# Altium footprint library PcbLib1.PcbLib: 26 footprints (part 2 of 2)
Each footprint in its own frame and in the unit in brackets; x right, y up, seen from the top. Pads: shape width x height; smd on the part's side, far side on the other; paste and mask are expansions set on the pad; w line width, h text height; cw(c..) or ccw(c..) is an arc to the next point about the centre after c.
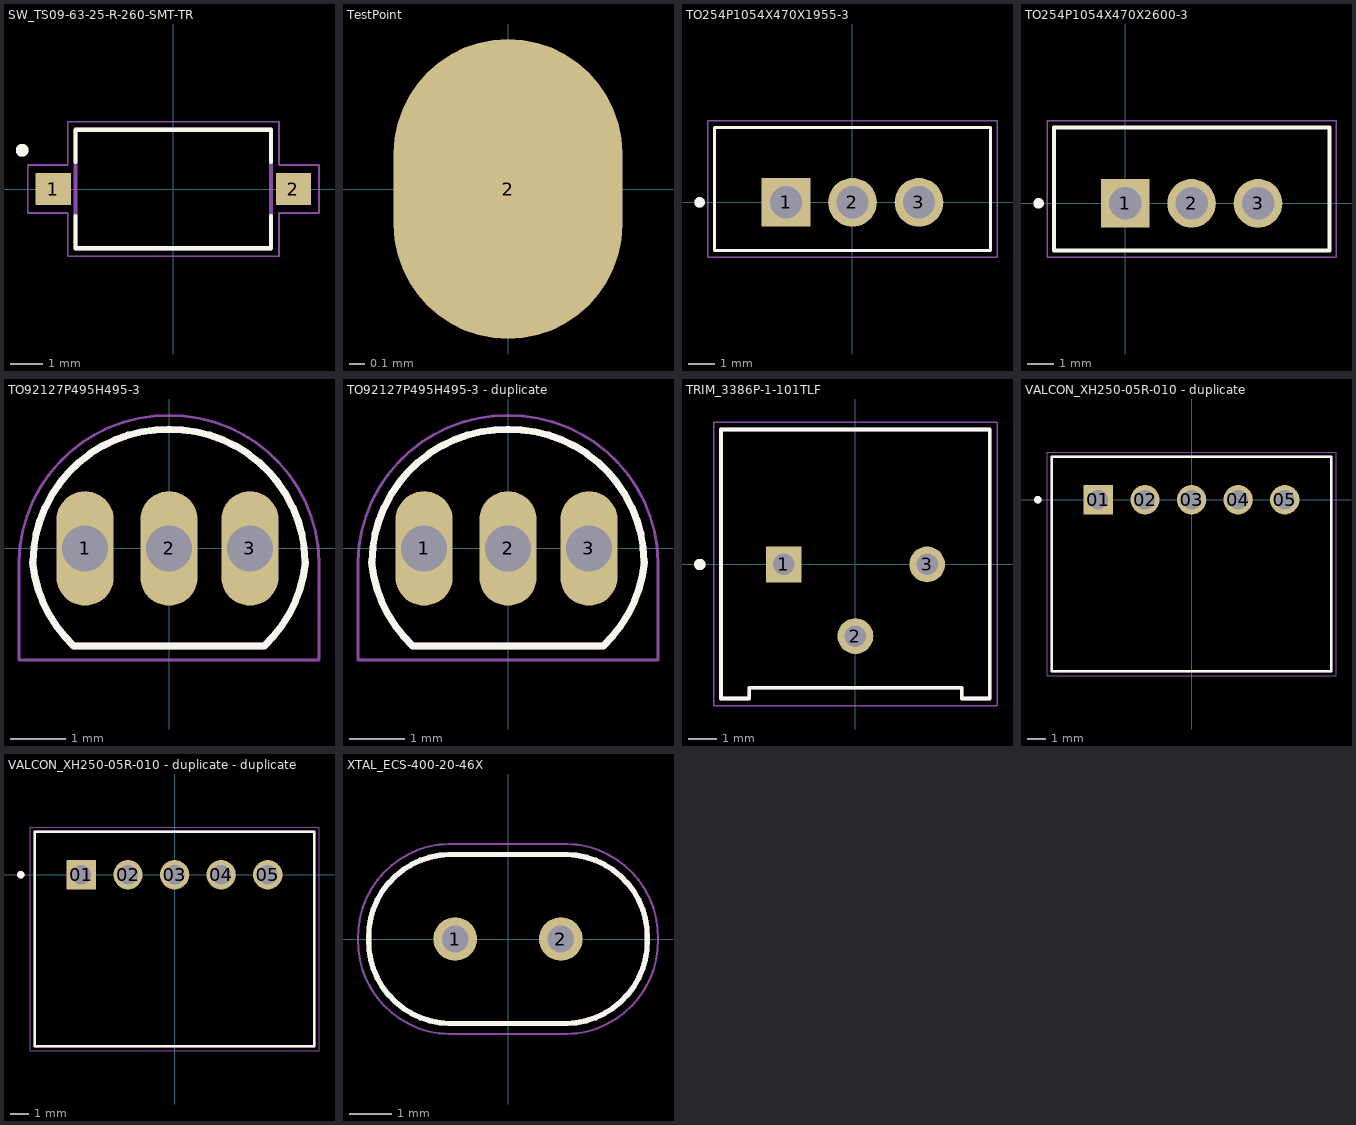
[diagram p1: the footprints below, top view; thin cyan lines are the x and y axes]

## SW_TS09-63-25-R-260-SMT-TR [mm]
height 2.5
pads (2):
  rect 1.1x1 smd: 1(-3.75,0) 2(3.75,0)
Top Overlay:
  circle w0.2: c-4.72,1.21 r0.1
  lines w0.127: -3.05,-0.85 -3.05,-1.85 3.05,-1.85 3.05,-0.85 ; -3.05,0.85 -3.05,1.85 3.05,1.85 3.05,0.85
Mechanical 13:
  circle w0.2: c-4.72,1.21 r0.1
  lines w0.127: -3.05,-1.85 -3.05,1.85 3.05,1.85 3.05,-1.85 -3.05,-1.85
Mechanical 15:
  lines w0.05: -4.55,-0.75 -3.3,-0.75 -3.3,-2.1 3.3,-2.1 3.3,-0.75 4.55,-0.75 4.55,0.75 3.3,0.75 3.3,2.1 -3.3,2.1 -3.3,0.75 -4.55,0.75 -4.55,-0.75

## TestPoint [mm]
pads (1):
  oval 1.524x2 smd: 2(0,0)

## TO254P1054X470X1955-3 [mm]
height 19.55
pads (3):
  rect 1.86x1.86 / inner round 1.86 / far side rect 1.86x1.86 hole 1.24: 1(-2.54,0)
  round 1.86 hole 1.24: 2(0,0) 3(2.54,0)
Top Overlay:
  circle w0.2: c-5.84,0 r0.1
  lines w0.127: -5.27,-1.84 -5.27,2.86 5.27,2.86 5.27,-1.84 -5.27,-1.84
Mechanical 13:
  circle w0.2: c-5.84,0 r0.1
  lines w0.127: -5.27,-1.84 -5.27,2.86 5.27,2.86 5.27,-1.84 -5.27,-1.84
Mechanical 15:
  lines w0.05: -5.52,-2.09 -5.52,3.11 5.52,3.11 5.52,-2.09 -5.52,-2.09
3D body "step_temp.STEP": height 22.86, standoff -8.38, extent -5.08,-1.485 5.08,2.71

## TO254P1054X470X2600-3 [mm]
pads (3):
  rect 1.86x1.86 / inner round 1.86 / far side rect 1.86x1.86 hole 1.24: 1(0,0)
  round 1.86 hole 1.24: 2(2.54,0) 3(5.08,0)
Top Overlay:
  circle w0.2: c-3.31,0 r0.1
  lines w0.152: -2.73,-1.8 -2.73,2.9 7.81,2.9 7.81,-1.8 -2.73,-1.8
Mechanical 13:
  lines w0.127: -2.73,-1.8 -2.73,2.9 7.81,2.9 7.81,-1.8 -2.73,-1.8
Mechanical 15:
  lines w0.05: -2.98,-2.052 8.06,-2.052 8.06,3.148 -2.98,3.148 -2.98,-2.052
3D body "step_temp.STEP": height 20.4, standoff -9.94, extent -5.08,-1.635 5.08,2.715

## TO92127P495H495-3 [mm]
height 4.95
pads (3):
  oval 1.04x2.08 hole 0.84: 1(-1.524,0) 2(0,0) 3(1.47,0)
Top Overlay:
  lines w0.127: -2.476,-0.242 ccw(c-0.116,-0.036) -1.732,-1.769 ; -2.475,-0.24 cw(c-0.028,-0.282) 0.015,2.165 ; -1.725,-1.775 1.725,-1.775 ; -0.015,2.165 cw(c0.028,-0.282) 2.475,-0.24 ; 1.732,-1.769 ccw(c0.116,-0.036) 2.476,-0.242
Mechanical 13:
  lines w0.127: -2.476,-0.242 ccw(c-0.116,-0.036) -1.732,-1.769 ; -2.475,-0.24 cw(c-0.028,-0.282) 0.015,2.165 ; -1.725,-1.775 1.725,-1.775 ; -0.015,2.165 cw(c0.028,-0.282) 2.475,-0.24 ; 1.732,-1.769 ccw(c0.116,-0.036) 2.476,-0.242
Mechanical 15:
  lines w0.05: -2.725,-0.255 -2.725,-2.025 2.725,-2.025 2.725,-0.255 ; -2.725,-0.235 cw(c-0.028,-0.282) 0.02,2.415 ; -0.02,2.415 cw(c0.028,-0.282) 2.725,-0.235
3D body "step_temp.STEP": height 5.14, standoff -15.3, extent -2.276,-1.548 2.283,2.285

## TO92127P495H495-3 - duplicate [mm]
height 4.95
pads (3):
  oval 1.04x2.08 hole 0.84: 1(-1.524,0) 2(0,0) 3(1.47,0)
Top Overlay:
  lines w0.127: -2.476,-0.242 ccw(c-0.116,-0.036) -1.732,-1.769 ; -2.475,-0.24 cw(c-0.028,-0.282) 0.015,2.165 ; -1.725,-1.775 1.725,-1.775 ; -0.015,2.165 cw(c0.028,-0.282) 2.475,-0.24 ; 1.732,-1.769 ccw(c0.116,-0.036) 2.476,-0.242
Mechanical 13:
  lines w0.127: -2.476,-0.242 ccw(c-0.116,-0.036) -1.732,-1.769 ; -2.475,-0.24 cw(c-0.028,-0.282) 0.015,2.165 ; -1.725,-1.775 1.725,-1.775 ; -0.015,2.165 cw(c0.028,-0.282) 2.475,-0.24 ; 1.732,-1.769 ccw(c0.116,-0.036) 2.476,-0.242
Mechanical 15:
  lines w0.05: -2.725,-0.255 -2.725,-2.025 2.725,-2.025 2.725,-0.255 ; -2.725,-0.235 cw(c-0.028,-0.282) 0.02,2.415 ; -0.02,2.415 cw(c0.028,-0.282) 2.725,-0.235
3D body "step_temp.STEP": height 5.14, standoff -15.3, extent -2.276,-1.548 2.283,2.285

## TRIM_3386P-1-101TLF [mm]
pads (3):
  rect 1.268x1.268 hole 0.76: 1(-2.54,-0.015)
  round 1.268 hole 0.76: 2(0,-2.555) 3(2.54,-0.015)
Top Overlay:
  circle w0.2: c-5.515,-0.015 r0.1
  lines w0.127: -4.765,-4.765 -4.765,4.765 4.765,4.765 4.765,-4.765 3.765,-4.765 3.765,-4.385 -3.765,-4.385 -3.765,-4.765 -4.765,-4.765
Mechanical 13:
  circle w0.2: c-5.515,-0.015 r0.1
  lines w0.127: -4.765,-4.765 -4.765,4.765 4.765,4.765 4.765,-4.765 3.765,-4.765 3.765,-4.385 -3.765,-4.385 -3.765,-4.765 -4.765,-4.765
Mechanical 15:
  lines w0.05: -5.015,-5.015 5.015,-5.015 5.015,5.015 -5.015,5.015 -5.015,-5.015
3D body "step_temp.STEP": height 10.92, standoff -6.86, extent -4.765,-4.765 4.765,4.765

## VALCON_XH250-05R-010 - duplicate [mm]
pads (5):
  rect 1.575x1.575 / inner round 1.575 / far side rect 1.575x1.575 hole 1.05 mask+0.05: 01(-5,0)
  round 1.575 hole 1.05 mask+0.05: 02(-2.5,0) 03(0,0) 04(2.5,0) 05(5,0)
Top Overlay:
  circle w0.2: c-8.25,0 r0.1
  lines w0.127: -7.5,-9.2 -7.5,2.3 7.5,2.3 7.5,-9.2 -7.5,-9.2
Mechanical 13:
  circle w0.2: c-8.25,0 r0.1
  lines w0.127: -7.5,-9.2 -7.5,2.3 7.5,2.3 7.5,-9.2 -7.5,-9.2
Mechanical 15:
  lines w0.05: -7.75,-9.45 -7.75,2.55 7.75,2.55 7.75,-9.45 -7.75,-9.45
3D body "step_temp.STEP": height 5.68, standoff -3.4, extent -7.5,-2.4 7.5,9.2

## VALCON_XH250-05R-010 - duplicate - duplicate [mm]
pads (5):
  rect 1.575x1.575 / inner round 1.575 / far side rect 1.575x1.575 hole 1.05 mask+0.05: 01(-5,0)
  round 1.575 hole 1.05 mask+0.05: 02(-2.5,0) 03(0,0) 04(2.5,0) 05(5,0)
Top Overlay:
  circle w0.2: c-8.25,0 r0.1
  lines w0.127: -7.5,-9.2 -7.5,2.3 7.5,2.3 7.5,-9.2 -7.5,-9.2
Mechanical 13:
  circle w0.2: c-8.25,0 r0.1
  lines w0.127: -7.5,-9.2 -7.5,2.3 7.5,2.3 7.5,-9.2 -7.5,-9.2
Mechanical 15:
  lines w0.05: -7.75,-9.45 -7.75,2.55 7.75,2.55 7.75,-9.45 -7.75,-9.45
3D body "step_temp.STEP": height 5.68, standoff -3.4, extent -7.507,-9.102 7.493,2.498

## XTAL_ECS-400-20-46X [mm]
pads (2):
  round 1.03 hole 0.63: 1(-1.25,0) 2(1.25,0)
Top Overlay:
  lines w0.127: -3.3,-0.016 ccw(c-1.35,-0.05) -1.384,-2 ; -3.3,0.016 cw(c-1.35,0.05) -1.384,2 ; -1.4,-2 1.4,-2 ; -1.4,2 1.4,2 ; 1.384,-2 ccw(c1.35,-0.05) 3.3,-0.016 ; 1.384,2 cw(c1.35,0.05) 3.3,0.016
Mechanical 13:
  lines w0.127: -3.3,-0.016 ccw(c-1.35,-0.05) -1.384,-2 ; -3.3,0.016 cw(c-1.35,0.05) -1.384,2 ; -1.4,-2 1.4,-2 ; -1.4,2 1.4,2 ; 1.384,-2 ccw(c1.35,-0.05) 3.3,-0.016 ; 1.384,2 cw(c1.35,0.05) 3.3,0.016
Mechanical 15:
  lines w0.05: -3.55,-0.012 ccw(c-1.35,-0.05) -1.388,-2.25 ; -3.55,0.012 cw(c-1.35,0.05) -1.388,2.25 ; -1.4,-2.25 1.4,-2.25 ; -1.4,2.25 1.4,2.25 ; 1.388,-2.25 ccw(c1.35,-0.05) 3.55,-0.012 ; 1.388,2.25 cw(c1.35,0.05) 3.55,0.012